# Altium footprint library Supervisor.PcbLib: 2 footprints
Each footprint in its own frame and in the unit in brackets; x right, y up, seen from the top. Pads: shape width x height; smd on the part's side, far side on the other; paste and mask are expansions set on the pad; w line width, h text height; cw(c..) or ccw(c..) is an arc to the next point about the centre after c.
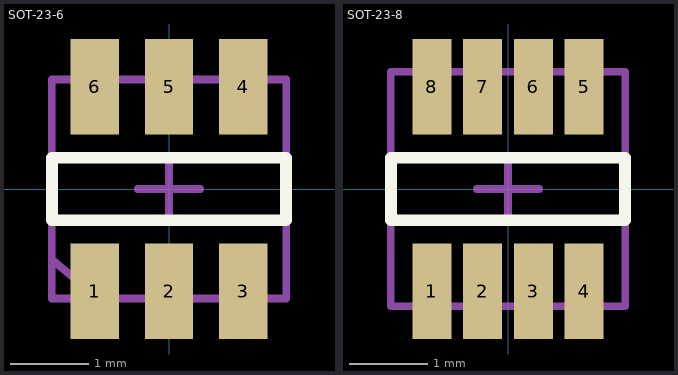
[diagram p0: the footprints below, top view; thin cyan lines are the x and y axes]

## SOT-23-6 [mm]
pads (6):
  rect 0.62x1.22 smd: 1(-0.95,-1.31) 2(0,-1.31) 3(0.95,-1.31) 4(0.95,1.31) 5(0,1.31) 6(-0.95,1.31)
Top Overlay:
  lines w0.153: -1.5,-0.4 1.5,-0.4 1.5,0.4 -1.5,0.4 -1.5,-0.4
  text "." at -1.947,-1.447 h0.8
Top Assembly:
  lines w0.1: -1.5,-0.9 -0.9,-1.4 ; -1.5,-1.4 1.5,-1.4 1.5,1.4 -1.5,1.4 -1.5,-1.4
Mechanical 15:
  lines w0.1: -0.4,0 0,0 ; 0,-0.4 0,0 ; 0,0.4 0,0 ; 0.4,0 0,0 ; -1.5,-1.4 -1.5,1.4 1.5,1.4 1.5,-1.4 -1.5,-1.4
3D body "User Library-TSOT-23.STEP": height 0.86, standoff 0, extent -1.5,-1.405 1.5,1.405

## SOT-23-8 [mm]
pads (8):
  rect 0.5x1.22 smd: 1(-0.975,-1.31) 2(-0.325,-1.31) 3(0.325,-1.31) 4(0.975,-1.31) 5(0.975,1.31) 6(0.325,1.31) 7(-0.325,1.31) 8(-0.975,1.31)
Top Overlay:
  lines w0.153: -1.5,-0.4 -1.5,0.4 1.5,0.4 1.5,-0.4 -1.5,-0.4
  text "." at -1.747,-1.447 h0.8
Top Assembly:
  lines w0.1: -1.5,-1.5 -1.5,1.5 1.5,1.5 1.5,-1.5 -1.5,-1.5
Mechanical 15:
  lines w0.1: -0.4,0 0,0 ; 0,-0.4 0,0 ; 0,0.4 0,0 ; 0.4,0 0,0 ; -1.5,-1.5 -1.5,1.5 1.5,1.5 1.5,-1.5 -1.5,-1.5
3D body "User Library-SOT-23-8-Thin.STEP": height 1.1, standoff 0, extent -1.475,-1.475 1.475,1.475